# EAGLE library part TEA6420 (library tea)
BUS-CONTROLLED AUDIO MATRIX SWITCH The TEA6420 switches 5 stereo audio inputs on 4 stereo outputs. All the switching possibilities are changes through the I²C bus. Features: - 5 Stereo Inputs - 4 Stereo Outputs - Gain Control 0/2/4/6dB/Mute for each Output - cascadable (2 different addresses) - Serial Bus Controlles - Very low Noise - Very low Distorsion
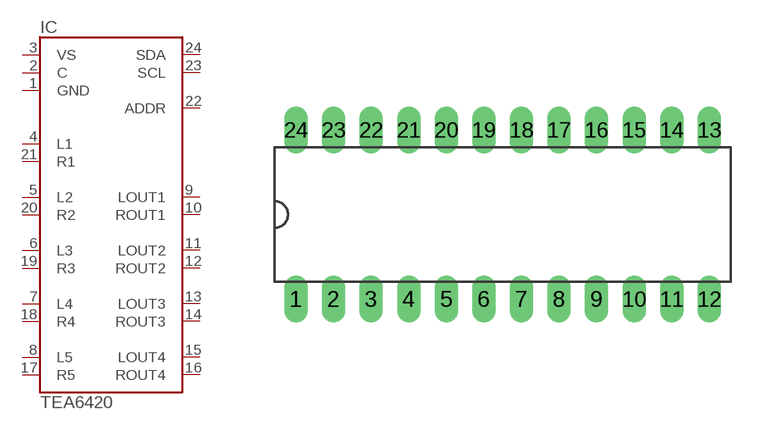
[diagram p0: symbol with the pads of S-DIL24; footprint S-DIL24]

Designator prefix IC

## TEA6420N  [S-DIL24]
1  GND  pwr
2  C  pas
3  VS  pwr
4  L1  in
5  L2  in
6  L3  in
7  L4  in
8  L5  in
9  LOUT1  out
10  ROUT1  out
11  LOUT2  out
12  ROUT2  out
13  LOUT3  out
14  ROUT3  out
15  LOUT4  out
16  ROUT4  out
17  R5  in
18  R4  in
19  R3  in
20  R2  in
21  R1  in
22  ADDR  in
23  SCL
24  SDA

## Footprint S-DIL24 (pad centres in mm)
SHRINK DUAL-INLINE-PACKAGE S-DIL24
drill 0.6 pad 0.813 long: 1 -9.779,-4; 2 -8.001,-4; 3 -6.223,-4; 4 -4.445,-4; 5 -2.667,-4; 6 -0.889,-4; 7 0.889,-4; 8 2.667,-4; 9 4.445,-4; 10 6.223,-4; 11 8.001,-4; 12 9.779,-4; 13 9.779,4; 14 8.001,4; 15 6.223,4; 16 4.445,4; 17 2.667,4; 18 0.889,4; 19 -0.889,4; 20 -2.667,4; 21 -4.445,4; 22 -6.223,4; 23 -8.001,4; 24 -9.779,4